# Altium schematic symbol library USB_TYPE_A_SOCKET.SchLib: 1 symbol
Pins are listed as number, name and electrical type; pins without a type are passive.

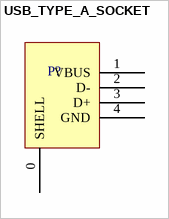
[diagram p0: symbol USB_TYPE_A_SOCKET]

## USB_TYPE_A_SOCKET
designator P?  (value not drawn)
footprint USB_TYPE_A_SOCKET
pins: 0 SHELL, 1 VBUS, 2 D-, 3 D+, 4 GND